# EAGLE library part CON_10F_RA (library wheat)
Connector, 10-pin RA female boardmount 3M 960110-7102
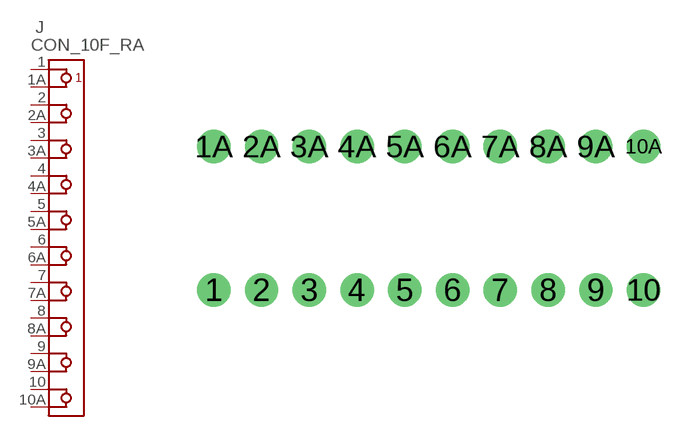
[diagram p129: symbol with the pads of CON_10_F_RA; footprint CON_10_F_RA]

Designator prefix J

## CON_10F_RA  [CON_10_F_RA]
1  1  pas
1A  1A  pas
2  2  pas
2A  2A  pas
3  3  pas
3A  3A  pas
4  4  pas
4A  4A  pas
5  5  pas
5A  5A  pas
6  6  pas
6A  6A  pas
7  7  pas
7A  7A  pas
8  8  pas
8A  8A  pas
9  9  pas
9A  9A  pas
10  10  pas
10A  10A  pas

## Footprint CON_10_F_RA (pad centres in mm)
Connector, 10-pin boardmount RA socket 3M 960110
drill 1.016 pad 1.778: 1 0,0; 1A 0,7.62; 2 2.54,0; 2A 2.54,7.62; 3 5.08,0; 3A 5.08,7.62; 4 7.62,0; 4A 7.62,7.62; 5 10.16,0; 5A 10.16,7.62; 6 12.7,0; 6A 12.7,7.62; 7 15.24,0; 7A 15.24,7.62; 8 17.78,0; 8A 17.78,7.62; 9 20.32,0; 9A 20.32,7.62; 10 22.86,0; 10A 22.86,7.62